# EAGLE library part MUX_FSUSB63UMX (library !GPLIB_ACTIVE)
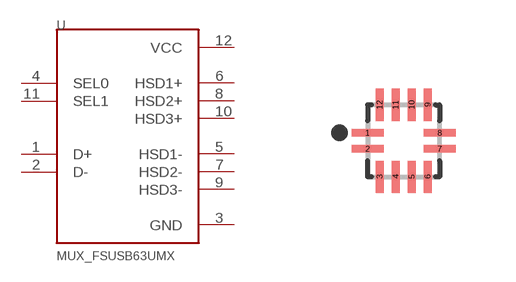
[diagram p135: symbol with the pads of QFN40P180X180X55-12N; footprint QFN40P180X180X55-12N]

Designator prefix U

## MUX_FSUSB63UMX  [QFN40P180X180X55-12N]
1  D+
2  D-
3  GND  pwr
4  SEL0  in
5  HSD1-  pas
6  HSD1+  pas
7  HSD2-  pas
8  HSD2+  pas
9  HSD3-  pas
10  HSD3+  pas
11  SEL1  in
12  VCC  pwr

## Footprint QFN40P180X180X55-12N (pad centres in mm)
smd 0.8 x 0.2: 1 -0.9,0.2; 2 -0.9,-0.2; 7 0.9,-0.2; 8 0.9,0.2
smd 0.2 x 0.8: 3 -0.6,-0.9; 4 -0.2,-0.9; 5 0.2,-0.9; 6 0.6,-0.9; 9 0.6,0.9; 10 0.2,0.9; 11 -0.2,0.9; 12 -0.6,0.9